# Altium footprint library Audio_Module.PcbLib: 1 footprints
Each footprint in its own frame and in the unit in brackets; x right, y up, seen from the top. Pads: shape width x height; smd on the part's side, far side on the other; paste and mask are expansions set on the pad; w line width, h text height; cw(c..) or ccw(c..) is an arc to the next point about the centre after c.
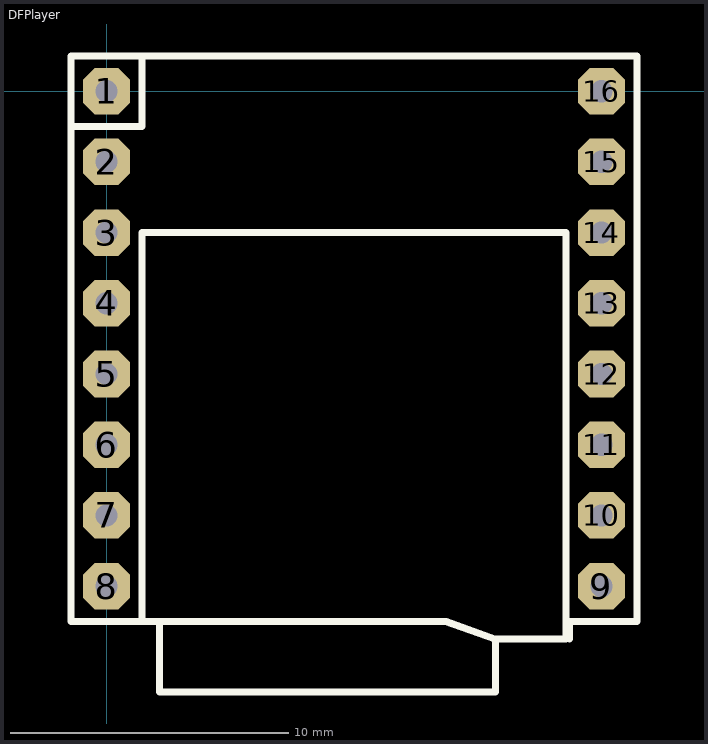
[diagram p0: the footprint, top view; thin cyan lines are the x and y axes]

## DFPlayer [mil]
pads (16):
  oct 66x66 / inner oct 60x60 / far side oct 66x66 hole 31.5: 1(0,0) 2(0,-100) 3(0,-200) 4(0,-300) 5(0,-400) 6(0,-500) 7(0,-600) 8(0,-700) 9(700,-700) 10(700,-600) 11(700,-500) 12(700,-400) 13(700,-300) 14(700,-200) 15(700,-100) 16(700,0)
Top Overlay:
  lines w10: -50,-50 50,-50 50,50 ; 50,-750 50,-200 650,-200 650,-775 550,-775 ; 655,-775 655,-765 655,-750 750,-750 750,50 -50,50 -50,-750 75,-750 ; 75,-750 480,-750 550,-775 ; 75,-750 75,-850 550,-850 550,-775
Mechanical 5:
Mechanical 7:
  lines w5: 50,-750 -50,-750 -50,50 750,50 750,-750 650,-750 ; 50,-750 50,-200 650,-200 650,-750 ; 50,-750 75,-750 ; 75,-750 475,-750 550,-775 ; 75,-750 75,-850 550,-850 550,-775 ; 550,-775 650,-775 650,-750
3D body "DFPlayer Mini Assem v1.step": height 418.11, standoff -22.83, extent -59.44,-859.17 759.46,64.45